# EAGLE library part INA219AID (library home)
CURRENT/ POWER MONITOR
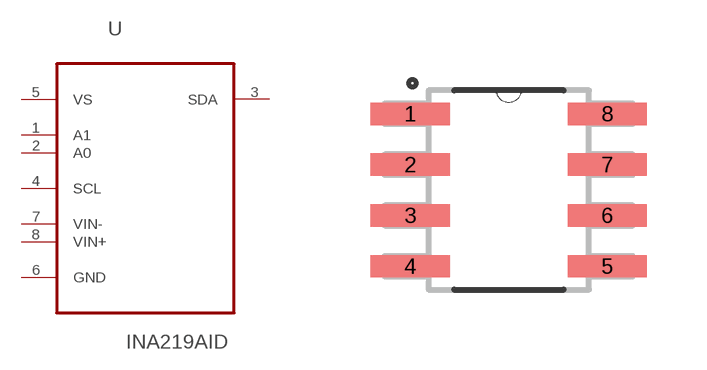
[diagram p4: symbol with the pads of SOIC127P600X175-8N; footprint SOIC127P600X175-8N]

Designator prefix U

## INA219AID (MPN: INA219AID; OC_FARNELL: -; OC_NEWARK: 45P7635; PACKAGE: SOIC-8; SUPPLIER: Texas Instruments)  [SOIC127P600X175-8N]
1  A1  in
2  A0  in
3  SDA
4  SCL  in
5  VS  pwr
6  GND  pas
7  VIN-  in
8  VIN+  in

## Footprint SOIC127P600X175-8N (pad centres in mm)
smd 1.981 x 0.559: 1 -2.464,1.905; 2 -2.464,0.635; 3 -2.464,-0.635; 4 -2.464,-1.905; 5 2.464,-1.905; 6 2.464,-0.635; 7 2.464,0.635; 8 2.464,1.905